# Altium schematic symbol library TMP_SNSR(1.8-5.5V, 16b, 6-WSON, I2C).SchLib: 1 symbol
Pins are listed as number, name and electrical type; pins without a type are passive.

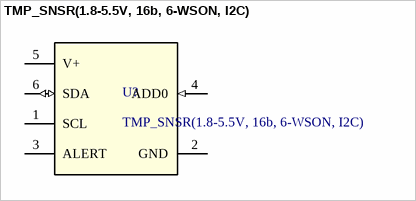
[diagram p0: symbol TMP_SNSR(1.8-5.5V, 16b, 6-WSON, I2C)]

## TMP_SNSR(1.8-5.5V, 16b, 6-WSON, I2C)
designator U?
0.1Â°C digital temperature sensor, 48-bit EEPROM, PT100/PT1000 RTD replacement 6-WSON 0 to 85; Manufacturer: Texas Instruments; Manufacturer_PN: TMP117MAIDRVR; Package: 6-WSON; Datasheet: https://www.ti.com/lit/ds/symlink/tmp117.pdf; Digikey_Link: https://www.digikey.it/en/products/detail/texas-instruments/TMP117MAIDRVR/9685285?s=N4IgTCBcDaICoFkAKBGFB2BBBAkgEQCUA1AkAXQF8g
footprint DRV0006B
pins: 1 SCL (oc), 2 GND (power), 3 ALERT (oc), 4 ADD0 (in), 5 V+ (power), 6 SDA (io)